# EAGLE library part 8RES (library scono)
https://www.digikey.com/product-detail/en/cts-resistor-products/742C163100JP/742C163100JPCT-ND/5875379
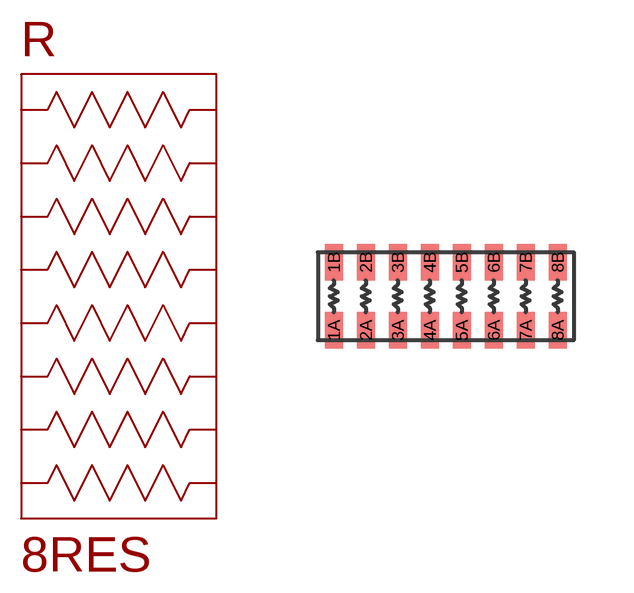
[diagram p29: symbol with the pads of 8RES2506; footprint 8RES2506]

Designator prefix R

## 8RES  [8RES2506]
1A  1A  pas
1B  1B  pas
2A  2A  pas
2B  2B  pas
3A  3A  pas
3B  3B  pas
4A  4A  pas
4B  4B  pas
5A  5A  pas
5B  5B  pas
6A  6A  pas
6B  6B  pas
7A  7A  pas
7B  7B  pas
8A  8A  pas
8B  8B  pas

## Footprint 8RES2506 (pad centres in mm)
https://www.digikey.com/product-detail/en/cts-resistor-products/742C163100JP/742C163100JPCT-ND/5875379
smd 0.45 x 0.9: 1A -2.8,-0.85; 1B -2.8,0.85; 2A -2,-0.85; 2B -2,0.85; 3A -1.2,-0.85; 3B -1.2,0.85; 4A -0.4,-0.85; 4B -0.4,0.85; 5A 0.4,-0.85; 5B 0.4,0.85; 6A 1.2,-0.85; 6B 1.2,0.85; 7A 2,-0.85; 7B 2,0.85; 8A 2.8,-0.85; 8B 2.8,0.85